# EAGLE library part M74HC4024B1R (library ST Microelectronics)
7 STAGE BINARY COUNTER
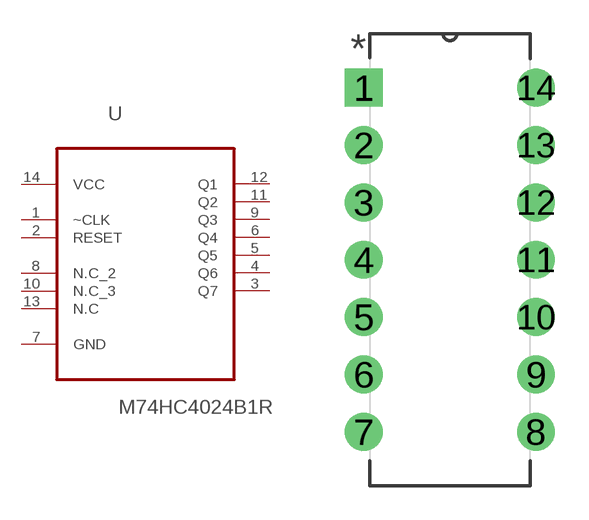
[diagram p233: symbol with the pads of DIP254P762X510-14; footprint DIP254P762X510-14]

Designator prefix U

## M74HC4024B1R (MPN: M74HC4024B1R; OC_FARNELL: -; OC_NEWARK: 89K0901; PACKAGE: PDIP-14; SUPPLIER: STMICROELECTRONICS)  [DIP254P762X510-14]
1  ~CLK  in
2  RESET  in
3  Q7  out
4  Q6  out
5  Q5  out
6  Q4  out
7  GND  pas
8  N.C_2  nc
9  Q3  out
10  N.C_3  nc
11  Q2  out
12  Q1  out
13  N.C  nc
14  VCC  pwr

## Footprint DIP254P762X510-14 (pad centres in mm)
drill 1.118 square: 1 -7.62,15.24
drill 1.118: 2 -7.62,12.7; 3 -7.62,10.16; 4 -7.62,7.62; 5 -7.62,5.08; 6 -7.62,2.54; 7 -7.62,0; 8 0,0; 9 0,2.54; 10 0,5.08; 11 0,7.62; 12 0,10.16; 13 0,12.7; 14 0,15.24